# Altium schematic symbol library Connector_clamp_x5.SCHLIB: 1 symbol
Pins are listed as number, name and electrical type; pins without a type are passive.

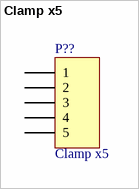
[diagram p0: symbol Clamp x5]

## Clamp x5
designator P??
LatestRevisionDate: 17-Jul-2002; LatestRevisionNote: Re-released for DXP Platform.; Publisher: Altium Limited
footprint Connector Clamp (x5)
pins: 1, 2, 3, 4, 5